# EAGLE library part SKY65116 (library psas_c3_team05)
SKYWORK SKY65116 LINEAR POWER AMPLIFIER
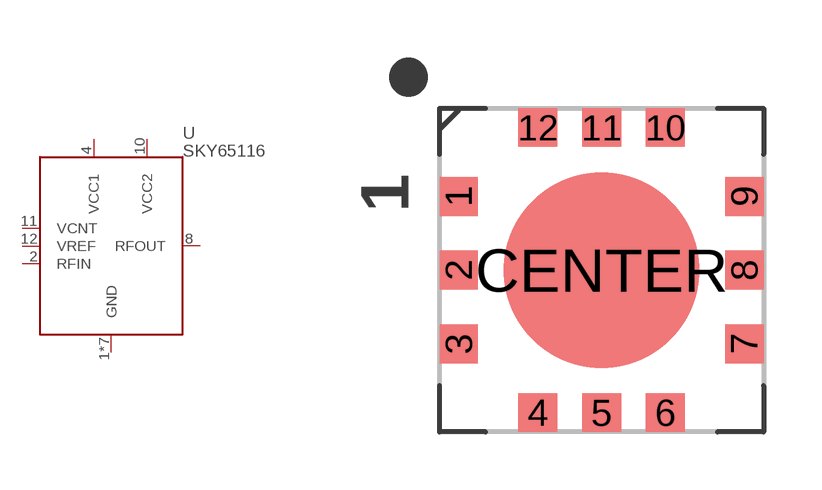
[diagram p18: symbol with the pads of SKY65116; footprint SKY65116]

Designator prefix -

## SKY65116  [SKY65116]
1  GND  pwr
2  RFIN  in
3  GND  pwr
4  VCC1  pwr
5  GND  pwr
6  GND  pwr
7  GND  pwr
8  RFOUT  out
9  GND  pwr
10  VCC2  pwr
11  VCNT  pwr
12  VREF  pwr
CENTER  GND  pwr

## Footprint SKY65116 (pad centres in mm)
smd 0.993 x 1.01: 1 -3.697,1.91; 2 -3.697,0; 3 -3.697,-1.91; 7 3.697,-1.91; 8 3.697,0; 9 3.697,1.91
smd 1.01 x 0.993: 4 -1.65,-3.697; 5 0,-3.697; 6 1.65,-3.697; 10 1.65,3.697; 11 0,3.697; 12 -1.65,3.697
smd 5.08 x 5.08: CENTER 0,0